# Altium footprint library Switch.PcbLib: 31 footprints (part 2 of 2)
Each footprint in its own frame and in the unit in brackets; x right, y up, seen from the top. Pads: shape width x height; smd on the part's side, far side on the other; paste and mask are expansions set on the pad; w line width, h text height; cw(c..) or ccw(c..) is an arc to the next point about the centre after c.
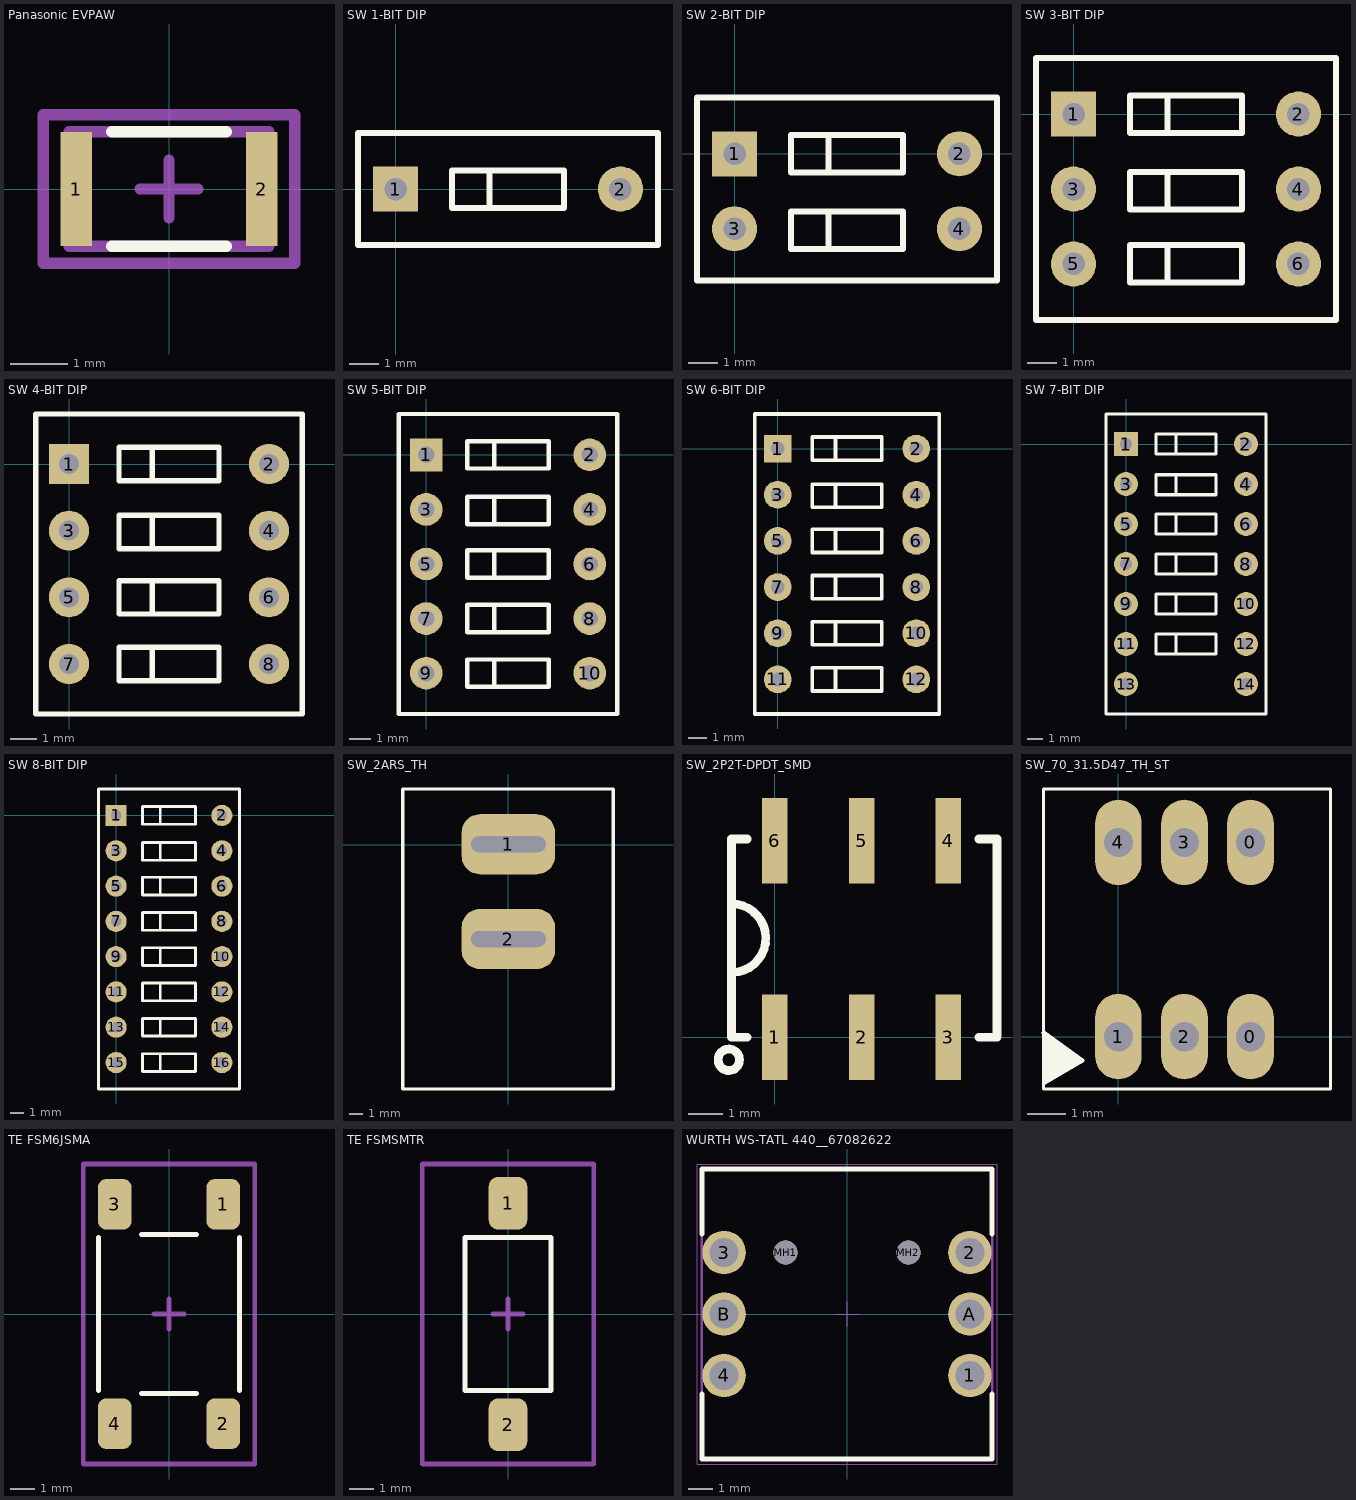
[diagram p1: the footprints below, top view; thin cyan lines are the x and y axes]

## Panasonic EVPAW [mm]
height 0.6
pads (2):
  rect 0.55x2 smd: 1(-1.625,0) 2(1.625,0)
Top Overlay:
  lines w0.2: -1,-1 1,-1 ; -1,1 1,1
Mechanical 1:
  lines w0.2: -1.75,-1 -1.75,1 1.75,1 1.75,-1 -1.75,-1
Mechanical 15:
  lines w0.2: -0.5,0 0.5,0 ; 0,-0.5 0,0.5 ; -2.2,-1.3 -2.2,1.3 2.2,1.3 2.2,-1.3 -2.2,-1.3
3D body "PANASONIC EVPAW.STEP": height 0.58, standoff 0, extent -1.75,-1 1.75,1

## SW 1-BIT DIP [mil]
pads (2):
  rect 60x60 hole 30: 1(0,0)
  round 60 hole 30: 2(300,0)
Top Overlay:
  lines w8: 125,-25 125,25 75,25 ; 75,25 75,-25 225,-25 225,25 75,25 ; -50,-75 350,-75 350,50 350,75 -50,75 -50,-75

## SW 2-BIT DIP [mil]
pads (4):
  rect 60x60 hole 30: 1(0,0)
  round 60 hole 30: 2(300,0) 3(0,-100) 4(300,-100)
Top Overlay:
  lines w8: 125,-127 125,-77 75,-77 ; 125,-25 125,25 75,25 ; 75,-77 75,-127 225,-127 225,-77 75,-77 ; 75,25 75,-25 225,-25 225,25 75,25 ; -50,-169 350,-169 350,50 350,75 -50,75 -50,-169

## SW 3-BIT DIP [mil]
pads (6):
  rect 60x60 hole 30: 1(0,0)
  round 60 hole 30: 2(300,0) 3(0,-100) 4(300,-100) 5(0,-200) 6(300,-200)
Top Overlay:
  lines w8: 125,-225 125,-175 75,-175 ; 125,-127 125,-77 75,-77 ; 125,-25 125,25 75,25 ; 75,-175 75,-225 225,-225 225,-175 75,-175 ; 75,-77 75,-127 225,-127 225,-77 75,-77 ; 75,25 75,-25 225,-25 225,25 75,25 ; -50,-275 350,-275 350,50 350,75 -50,75 -50,-275

## SW 4-BIT DIP [mil]
pads (8):
  rect 60x60 hole 30: 1(0,0)
  round 60 hole 30: 2(300,0) 3(0,-100) 4(300,-100) 5(0,-200) 6(300,-200) 7(0,-300) 8(300,-300)
Top Overlay:
  lines w8: 125,-325 125,-275 75,-275 ; 125,-225 125,-175 75,-175 ; 125,-127 125,-77 75,-77 ; 125,-25 125,25 75,25 ; 75,-275 75,-325 225,-325 225,-275 75,-275 ; 75,-175 75,-225 225,-225 225,-175 75,-175 ; 75,-77 75,-127 225,-127 225,-77 75,-77 ; 75,25 75,-25 225,-25 225,25 75,25 ; -50,-375 350,-375 350,50 350,75 -50,75 -50,-375

## SW 5-BIT DIP [mil]
pads (10):
  rect 60x60 hole 30: 1(0,0)
  round 60 hole 30: 2(300,0) 3(0,-100) 4(300,-100) 5(0,-200) 6(300,-200) 7(0,-300) 8(300,-300) 9(0,-400) 10(300,-400)
Top Overlay:
  lines w8: 125,-425 125,-375 75,-375 ; 125,-325 125,-275 75,-275 ; 125,-225 125,-175 75,-175 ; 125,-127 125,-77 75,-77 ; 125,-25 125,25 75,25 ; 75,-375 75,-425 225,-425 225,-375 75,-375 ; 75,-275 75,-325 225,-325 225,-275 75,-275 ; 75,-175 75,-225 225,-225 225,-175 75,-175 ; 75,-77 225,-77 225,-127 75,-127 75,-77 ; 75,25 225,25 225,-25 75,-25 75,25 ; -50,-475 -50,75 350,75 350,50 350,-475 -50,-475

## SW 6-BIT DIP [mil]
pads (12):
  rect 60x60 hole 30: 1(0,0)
  round 60 hole 30: 2(300,0) 3(0,-100) 4(300,-100) 5(0,-200) 6(300,-200) 7(0,-300) 8(300,-300) 9(0,-400) 10(300,-400) 11(0,-500) 12(300,-500)
Top Overlay:
  lines w8: 125,-525 125,-475 75,-475 ; 125,-425 125,-375 75,-375 ; 125,-325 125,-275 75,-275 ; 125,-225 125,-175 75,-175 ; 125,-127 125,-77 75,-77 ; 125,-25 125,25 75,25 ; 75,-475 75,-525 225,-525 225,-475 75,-475 ; 75,-375 75,-425 225,-425 225,-375 75,-375 ; 75,-275 75,-325 225,-325 225,-275 75,-275 ; 75,-175 75,-225 225,-225 225,-175 75,-175 ; 75,-77 225,-77 225,-127 75,-127 75,-77 ; 75,25 225,25 225,-25 75,-25 75,25 ; -50,-575 350,-575 350,50 350,75 -50,75 -50,-575

## SW 7-BIT DIP [mil]
pads (14):
  rect 60x60 hole 30: 1(0,0)
  round 60 hole 30: 2(300,0) 3(0,-100) 4(300,-100) 5(0,-200) 6(300,-200) 7(0,-300) 8(300,-300) 9(0,-400) 10(300,-400) 11(0,-500) 12(300,-500) 13(0,-600) 14(300,-600)
Top Overlay:
  lines w8: 125,-525 125,-475 75,-475 ; 125,-425 125,-375 75,-375 ; 125,-325 125,-275 75,-275 ; 125,-225 125,-175 75,-175 ; 125,-127 125,-77 75,-77 ; 125,-25 125,25 75,25 ; 75,-475 75,-525 225,-525 225,-475 75,-475 ; 75,-375 75,-425 225,-425 225,-375 75,-375 ; 75,-275 75,-325 225,-325 225,-275 75,-275 ; 75,-175 75,-225 225,-225 225,-175 75,-175 ; 75,-77 225,-77 225,-127 75,-127 75,-77 ; 75,25 225,25 225,-25 75,-25 75,25 ; -50,-675 -50,75 350,75 350,50 350,-675 -50,-675

## SW 8-BIT DIP [mil]
pads (16):
  rect 60x60 hole 30: 1(0,0)
  round 60 hole 30: 2(300,0) 3(0,-100) 4(300,-100) 5(0,-200) 6(300,-200) 7(0,-300) 8(300,-300) 9(0,-400) 10(300,-400) 11(0,-500) 12(300,-500) 13(0,-600) 14(300,-600) 15(0,-700) 16(300,-700)
Top Overlay:
  lines w8: 125,-725 125,-675 75,-675 ; 125,-625 125,-575 75,-575 ; 125,-525 125,-475 75,-475 ; 125,-425 125,-375 75,-375 ; 125,-325 125,-275 75,-275 ; 125,-225 125,-175 75,-175 ; 125,-127 125,-77 75,-77 ; 125,-25 125,25 75,25 ; 75,-675 75,-725 225,-725 225,-675 75,-675 ; 75,-575 75,-625 225,-625 225,-575 75,-575 ; 75,-475 75,-525 225,-525 225,-475 75,-475 ; 75,-375 75,-425 225,-425 225,-375 75,-375 ; 75,-275 75,-325 225,-325 225,-275 75,-275 ; 75,-175 75,-225 225,-225 225,-175 75,-175 ; 75,-77 75,-127 225,-127 225,-77 75,-77 ; 75,25 75,-25 225,-25 225,25 75,25 ; -50,-775 350,-775 350,50 350,75 -50,75 -50,-775

## SW_2ARS_TH [mm] "CASE: TH"
height 13.69
pads (2):
  rrect60% 7x4.5 hole 1.2 slot 5.6 at 0 deg mask+0.076: 1(0.025,0.051) 2(0.025,-7.049)
Top Overlay:
  lines w0.254: -7.874,-18.288 7.874,-18.288 7.874,4.191 -0.809,4.191 -7.874,4.191 -7.874,-18.288
3D body "4710368_prasa1-16f-bb0bw.stp": height 17.81, standoff -6.9, extent -7.474,-17.899 7.526,3.801

## SW_2P2T-DPDT_SMD [mm] "PCB Mountable Slide Switch. Double Pole, Double Throw = DPDT"
height 5.5
pads (6):
  rect 0.75x2.5 smd: 1(0,0) 2(2.54,0) 3(5.08,0) 4(5.08,5.75) 5(2.54,5.75) 6(0,5.75)
Top Overlay:
  circle w0.254: c-1.346,-0.66 r0.314
  lines w0.254: -1.27,3.907 cw(c-1.27,2.9) -1.235,1.893 ; -0.813,0 -1.27,0 -1.27,5.8 -0.813,5.8 ; 5.969,0 6.502,0 6.502,5.8 5.969,5.8
3D body "User Library-CKSW-GT21MSCBE.step": height 10.92, standoff 0, extent -0.965,-0.614 6.045,6.426

## SW_70_31.5D47_TH_ST [mm] "CASE: TH"
height 12
pads (6):
  oval 1.2x2.2 hole 0.75: 0(3.4,0) 0(3.4,5) 1(0,0) 2(1.7,0) 3(1.7,5) 4(0,5)
Top Overlay:
  region: -1.981,0.102 -1.93,0.051 -1.93,-1.143 -1.524,-0.965 -0.965,-0.584
  lines w0.076: -1.93,-1.346 -1.93,6.375 5.461,6.375 5.461,-1.346 -1.93,-1.346
  lines w0.127: -1.915,0.097 -0.94,-0.61 -1.902,-1.173
3D body "Toggle Button (7 x 7 x 12mm) - Latching.stp": height 13.54, standoff -3.23, extent -1.74,-0.914 5.296,5.995

## TE FSM6JSMA [mm]
height 7.11
pads (4):
  rrect50% 1.4x2.1 smd: 1(2.25,4.55) 2(2.25,-4.55) 3(-2.25,4.55) 4(-2.25,-4.55)
Top Overlay:
  lines w0.2: -2.921,-3.175 -2.921,3.175 ; -1.143,-3.302 1.143,-3.302 ; -1.143,3.302 1.143,3.302 ; 2.921,-3.175 2.921,3.175
Mechanical 15:
  lines w0.2: -0.635,0 0.635,0 ; 0,-0.635 0,0.635 ; -3.556,-6.223 -3.556,6.223 3.556,6.223 3.556,-6.223 -3.556,-6.223
3D body "FSM6JSMA.STEP": height 7.11, standoff 0, extent -3,-5 3,5

## TE FSMSMTR [mm]
height 4.42
pads (2):
  rrect50% 1.6x2.19 smd: 1(0,4.595) 2(0,-4.595)
Top Overlay:
  lines w0.2: -1.778,-3.175 -1.778,3.175 1.778,3.175 1.778,-3.175 -1.778,-3.175
Mechanical 15:
  lines w0.2: -0.635,0 0.635,0 ; 0,-0.635 0,0.635 ; -3.556,-6.223 3.556,-6.223 3.556,6.223 -3.556,6.223 -3.556,-6.223
3D body "FSMSMTR.STEP": height 4.42, standoff 0, extent -1.75,-4.984 1.75,4.985

## WURTH WS-TATL 440__67082622 [mm]
height 8.2
pads (8):
  round 1.8 hole 1.2: 1(5.08,-2.54) 2(5.08,2.54) 3(-5.08,2.54) 4(-5.08,-2.54) A(5.08,0) B(-5.08,0)
  round 1 hole 1 unplated: MH1(-2.54,2.54) MH2(2.54,2.54)
Top Overlay:
  lines w0.2: -6,-3.3 -6,-6 6,-6 6,-3.3 ; -6,3.3 -6,6 6,6 6,3.3
Mechanical 13:
  lines w0.1: -6,-6 6,-6 6,6 -6,6 -6,-6
Mechanical 15:
  lines w0.05: -0.5,0 0.5,0 ; 0,-0.5 0,0.5 ; -6.2,-6.2 6.2,-6.2 6.2,6.2 -6.2,6.2 -6.2,-6.2
3D body "440xx67082622.stp": height 8.3, standoff -3.2, extent -6,-6 6,6